# EAGLE library part MM74HC4066N (library Fairchild_By_element14_Batch_1)
Quad Analog Switch
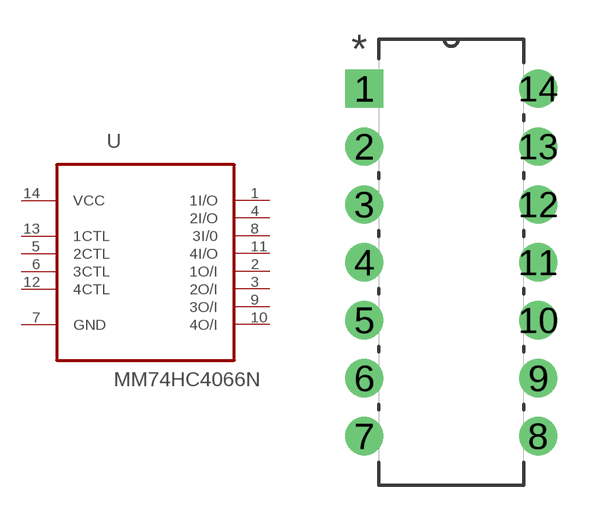
[diagram p289: symbol with the pads of DIP254P762X508-14; footprint DIP254P762X508-14]

Designator prefix U

## MM74HC4066N (MPN: MM74HC4066N; OC_FARNELL: 1013950; OC_NEWARK: 58K9455; PACKAGE: PDIP-14; SUPPLIER: FAIRCHILD SEMICONDUCTOR)  [DIP254P762X508-14]
1  1I/O
2  1O/I
3  2O/I
4  2I/O
5  2CTL  in
6  3CTL  in
7  GND  pas
8  3I/0
9  3O/I
10  4O/I
11  4I/O
12  4CTL  in
13  1CTL  in
14  VCC  pwr

## Footprint DIP254P762X508-14 (pad centres in mm)
drill 1.118 square: 1 -7.62,15.24
drill 1.118: 2 -7.62,12.7; 3 -7.62,10.16; 4 -7.62,7.62; 5 -7.62,5.08; 6 -7.62,2.54; 7 -7.62,0; 8 0,0; 9 0,2.54; 10 0,5.08; 11 0,7.62; 12 0,10.16; 13 0,12.7; 14 0,15.24